# Altium footprint library Inte_Car.PcbLib: 4 footprints
Each footprint in its own frame and in the unit in brackets; x right, y up, seen from the top. Pads: shape width x height; smd on the part's side, far side on the other; paste and mask are expansions set on the pad; w line width, h text height; cw(c..) or ccw(c..) is an arc to the next point about the centre after c.
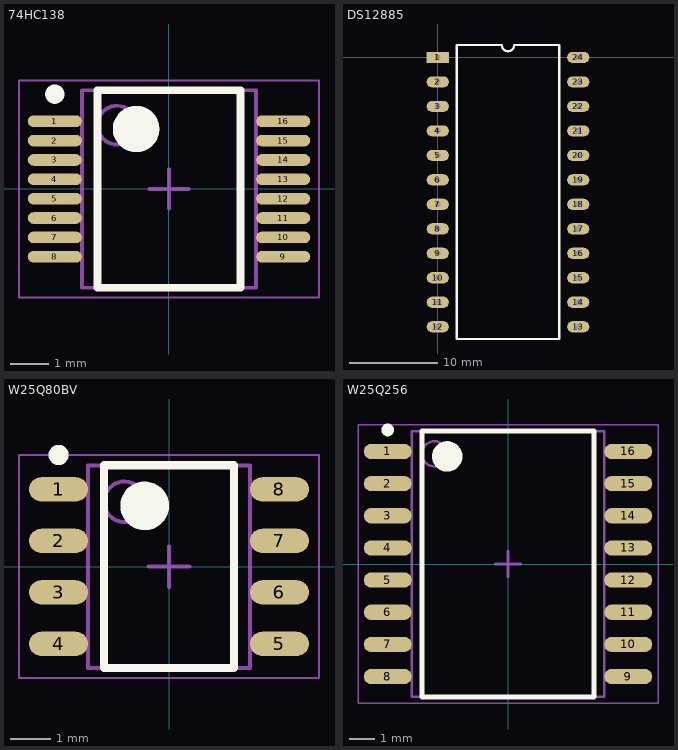
[diagram p0: the footprints below, top view; thin cyan lines are the x and y axes]

## 74HC138 [mm] "SOP127P600-8N"
height 1.1
pads (16):
  oval 1.4x0.3 smd: 1(-2.95,1.75) 2(-2.95,1.25) 3(-2.95,0.75) 4(-2.95,0.25) 5(-2.95,-0.25) 6(-2.95,-0.75) 7(-2.95,-1.25) 8(-2.95,-1.75) 9(2.95,-1.75) 10(2.95,-1.25) 11(2.95,-0.75) 12(2.95,-0.25) 13(2.95,0.25) 14(2.95,0.75) 15(2.95,1.25) 16(2.95,1.75)
Top Overlay:
  circle w0.6: c-0.85,1.55 r0.3
  circle w0.25: c-2.95,2.45 r0.125
  lines w0.2: -1.85,-2.55 1.85,-2.55 1.85,2.55 -1.85,2.55 -1.85,-2.55
Mechanical 13:
  circle w0.1: c-1.35,1.65 r0.5
  lines w0.1: -2.25,-2.55 2.25,-2.55 2.25,2.55 -2.25,2.55 -2.25,-2.55
Mechanical 15:
  lines w0.05: -3.875,-2.8 3.875,-2.8 3.875,2.8 -3.875,2.8 -3.875,-2.8
  lines w0.1: -0.5,0 0.5,0 ; 0,-0.5 0,0.5
3D body "74HC138.step": height 1.1, standoff 0.02, extent -3.16,-2.55 3.16,2.55

## DS12885 [mm]
pads (24):
  rect 2.54x1.27 hole 0.635: 1(0,0)
  oval 2.54x1.27 hole 0.635: 2(0,-2.79) 3(0,-5.58) 4(0,-8.37) 5(0,-11.16) 6(0,-13.95) 7(0,-16.74) 8(0,-19.53) 9(0,-22.32) 10(0,-25.11) 11(0,-27.9) 12(0,-30.69) 13(16,-30.69) 14(16,-27.9) 15(16,-25.11) 16(16,-22.32) 17(16,-19.53) 18(16,-16.74) 19(16,-13.95) 20(16,-11.16) 21(16,-8.37) 22(16,-5.58) 23(16,-2.79) 24(16,0)
Top Overlay:
  lines w0.254: 2.159,-32.085 13.841,-32.085 13.841,1.395 8.697,1.395 cw(c8,1.395) 7.302,1.395 2.159,1.395 2.159,-32.085

## W25Q80BV [mm]
pads (8):
  oval 1.45x0.6 smd: 1(-2.725,1.905) 2(-2.725,0.635) 3(-2.725,-0.635) 4(-2.725,-1.905) 5(2.725,-1.905) 6(2.725,-0.635) 7(2.725,0.635) 8(2.725,1.905)
Top Overlay:
  circle w0.6: c-0.6,1.5 r0.3
  circle w0.25: c-2.725,2.755 r0.125
  lines w0.2: -1.6,-2.5 1.6,-2.5 1.6,2.5 -1.6,2.5 -1.6,-2.5
Mechanical 13:
  circle w0.1: c-1.1,1.6 r0.5
  lines w0.1: -2,-2.5 2,-2.5 2,2.5 -2,2.5 -2,-2.5
Mechanical 15:
  lines w0.05: -3.7,-2.75 3.7,-2.75 3.7,2.75 -3.7,2.75 -3.7,-2.75
  lines w0.1: -0.5,0 0.5,0 ; 0,-0.5 0,0.5
3D body "W25Q80BV.step": height 1.75, standoff 0, extent -3,-2.5 3,2.5

## W25Q256 [mm]
pads (16):
  oval 1.9x0.6 smd: 1(-4.75,4.445) 2(-4.75,3.175) 3(-4.75,1.905) 4(-4.75,0.635) 5(-4.75,-0.635) 6(-4.75,-1.905) 7(-4.75,-3.175) 8(-4.75,-4.445) 9(4.75,-4.445) 10(4.75,-3.175) 11(4.75,-1.905) 12(4.75,-0.635) 13(4.75,0.635) 14(4.75,1.905) 15(4.75,3.175) 16(4.75,4.445)
Top Overlay:
  circle w0.25: c-4.75,5.295 r0.125
  circle w0.6: c-2.4,4.25 r0.3
  lines w0.2: -3.4,-5.25 -3.4,5.25 3.4,5.25 3.4,-5.25 -3.4,-5.25
Mechanical 13:
  circle w0.1: c-2.9,4.35 r0.5
  lines w0.1: -3.8,-5.25 -3.8,5.25 3.8,5.25 3.8,-5.25 -3.8,-5.25
Mechanical 15:
  lines w0.05: -5.925,-5.5 -5.925,5.5 5.925,5.5 5.925,-5.5 -5.925,-5.5
  lines w0.1: -0.5,0 0.5,0 ; 0,-0.5 0,0.5
3D body "W25Q256_1.step": height 2.64, standoff 0, extent -5.162,-5.25 5.162,5.25